# Altium schematic symbol library CAP_ALUM.SCHLIB: 1 symbol
Pins are listed as number, name and electrical type; pins without a type are passive.

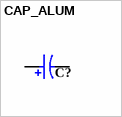
[diagram p0: symbol CAP_ALUM]

## CAP_ALUM
designator C?
pins: 1, 2